# EAGLE library part JACK-USB-A (library FansElectronics-Con-USB)
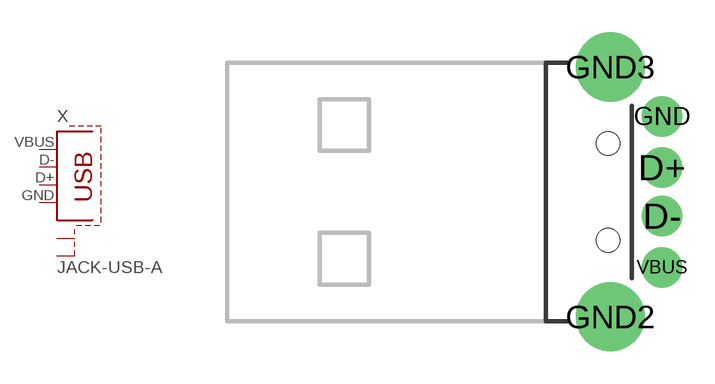
[diagram p2: symbol with the pads of USB-A-H; footprint USB-A-H]

Designator prefix X

## JACK-USB-A  [USB-A-H]
D+  3  pas
D-  2  pas
GND  4  pas
GND2  S1  pas
GND3  S2  pas
VBUS  1  pas

## Footprint USB-A-H (pad centres in mm)
drill 0.914 pad 1.88: D+ 2.4,1.127; D- 2.4,-1.127; GND 2.4,3.5; VBUS 2.4,-3.5
drill 2.2: GND2 0,-5.8; GND3 0,5.8
hole 1.1 at -0.1,2.25
hole 1.1 at -0.1,-2.25